# Altium schematic symbol library MyLib.SchLib: 13 symbols
Pins are listed as number, name and electrical type; pins without a type are passive.

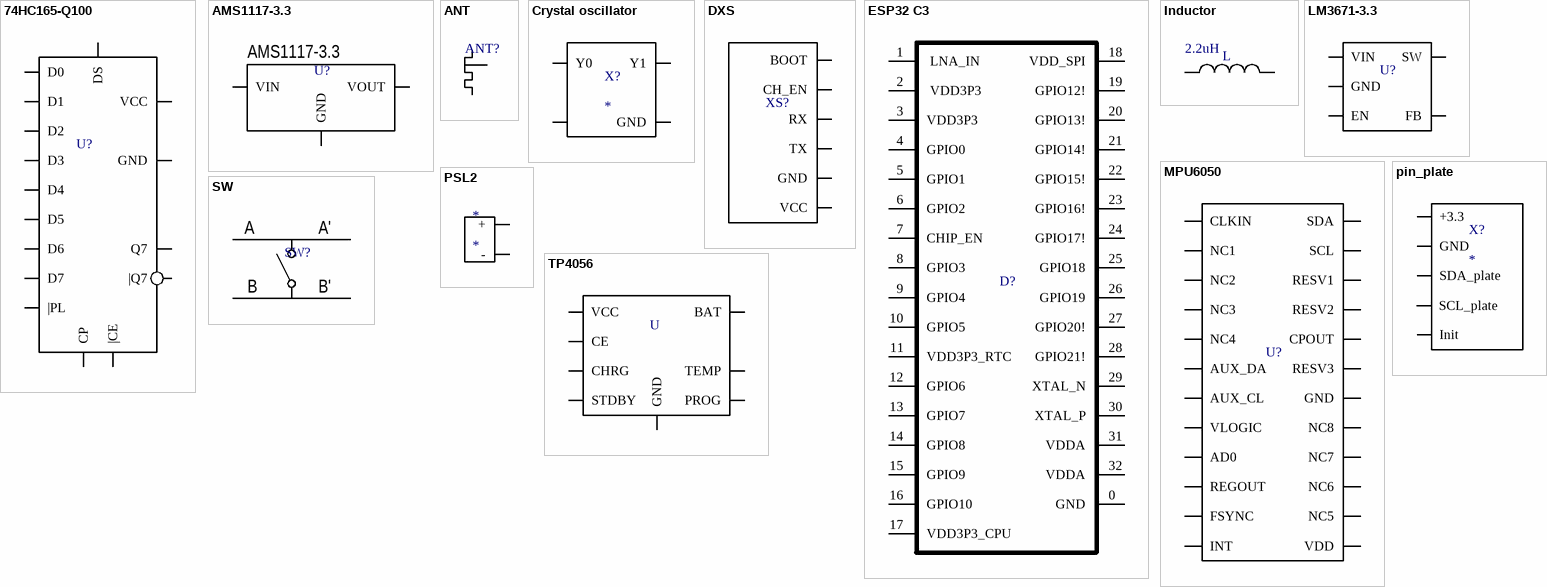
[diagram p0: symbols 74HC165-Q100 to TP4056]

## 74HC165-Q100
designator U?, comment 8-bit parallel-in/serial out shift register  (value not drawn)
Manufacturer: Texas Instruments; LogicFamily: HC; Vcc: 2V - 6V; Output: Serial; Model: 74HC165-Q100; Inputsr 1: 8-bit parallel
footprint 16-SSOP (pitch 0.635 mm)
pins: 1 |PL, 2 CP, 3 D4, 4 D5, 5 D6, 6 D7, 7 |Q7, 8 GND, 9 Q7, 10 DS, 11 D0, 12 D1, 13 D2, 14 D3, 15 |CE, 16 VCC

## AMS1117-3.3
designator U?
Manufacturer: Advanced Monolithic Systems; Output Voltage: 800 mA; Package: SOT-223; Component Name: AMS1117-3.3
footprint SOT223 (SOT223, 4-Leads, Body 6,50x7,00mm (avg), Pitch 2,30mm, IPC Medium Density)
pins: 1 GND, 2 VOUT, 3 VIN

## ANT
designator ANT?  (value not drawn)
Manufacturer: Johanson; ManufacturerPN: 2450AT18A100; Frequency: 2.4 GHz; Impedance: 50 Ω; VSWR: < 2.0; Gain: 1-2 dBi
footprint RES: 1206
pins: 1 0

## Crystal oscillator
designator X?
Manufacturer: Yangxing; Frequency: 40 MHz; FrequencyTolerance: ±30 ppm; LoadCapacitance: 10 pF; Type: SMD Crystal; Stability: ±30 ppm
footprint 3.2x2.5x0.70 mm
pins: 0 Y0, 1 Y1, GND, GND

## DXS
designator XS?, comment Debug pins  (value not drawn)
footprint PLS6
pins: 0 BOOT, 1 CH_EN, 2 RX, 3 TX, 4 GND, 5 VCC

## ESP32 C3
designator D?  (value not drawn)
Manufacturer: Espressif; ManufacturerPN: ESP32-C3FH4; Frequency: 160 MHz; SupplyVoltage: 3.0V - 3.6V; Footprint: QFN-32
footprint 32-QFN (5x5 mm, pitch 0.5 mm, power pad)
pins: 0 GND, 1  LNA_IN, 2  VDD3P3, 3 VDD3P3, 4 GPIO0, 5 GPIO1, 6 GPIO2, 7 CHIP_EN, 8 GPIO3, 9 GPIO4, 10 GPIO5, 11 VDD3P3_RTC, 12 GPIO6, 13 GPIO7, 14 GPIO8, 15 GPIO9, 16 GPIO10, 17 VDD3P3_CPU, 18 VDD_SPI, 19 GPIO12!, 20 GPIO13!, 21 GPIO14!, 22 GPIO15!, 23 GPIO16!, 24 GPIO17!, 25 GPIO18, 26 GPIO19, 27 GPIO20!, 28 GPIO21!, 29 XTAL_N, 30 XTAL_P, 31 VDDA, 32 VDDA

## Inductor
designator L  value 2.2uH  (hidden comment: Inductor)
Tolerance: ±5%; Package: 0805
footprint IND: 0805
pins: 1, 2

## LM3671-3.3
designator U?  (value not drawn)
Manufacturer: Texas Instruments; Vin: 2.7V - 5.5V; Vout: 3.3V; Iout: 600 mA
footprint SOT23-5 (pitch 0.95 mm)
pins: 1 VIN, 2 GND, 3 EN, 4 FB, 5 SW

## MPU6050
designator U?  (value not drawn)
footprint 24-QFN (4x4 mm, pitch 0.5 mm, power pad); pin to pad AD0>9 AUX_CL>7 AUX_DA>6 CLKIN>1 CPOUT>20 FSYNC>11 GND>18+0 INT>12 REGOUT>10 RESV1>22 RESV2>21 RESV3>19 SCL>23 SDA>24 VDD>13 VLOGIC>8
pins: AD0, AUX_CL, AUX_DA, CLKIN, CPOUT, FSYNC, GND, INT, NC1, NC2, NC3, NC4, NC5, NC6, NC7, NC8, REGOUT, RESV1, RESV2, RESV3, SCL, SDA, VDD, VLOGIC

## pin_plate
designator X?
footprint PLS5
pins: 29 +3.3, 30 GND, 31 SDA_plate, 32 SCL_plate, 33 Init

## PSL2
designator *
footprint PLS2
pins: 1 +, 2 -

## SW
designator SW?  (value not drawn)
Manufacturer: Panasonic; ManufacturerPN: EVQP0E02K; Model: Tactile Switches EVQP0; DielectricStrength: 250 VAC; Circuit: SPST-NO; Type: Tactile Switch; Mounting: SMD; OperatingTemperature: -20°C to +70°C
footprint BUTTON EVQP0
pins: 0 A', 0 A, 1 B', 1 B

## TP4056
designator U  (value not drawn)
Manufacturer: NanJing Top Power; InputVoltage: 4.5V - 5.5V; ChargeCurrent: Up to 1 A; Footprint: ESOP-8
footprint 8-SOP (pitch 2.54 mm)
pins: 1 TEMP, 2 PROG, 3 VCC, 4 GND, 5 CE, 6 CHRG, 7 STDBY, 8 BAT